# Altium schematic symbol library TBP02R1-381-10BE.SchLib: 1 symbol
Pins are listed as number, name and electrical type; pins without a type are passive.

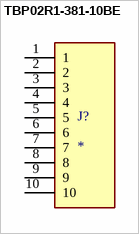
[diagram p0: symbol TBP02R1-381-10BE]

## TBP02R1-381-10BE
designator J?
2â€“24 Ð¿Ð¾Ð»ÑŽÑÐ°, Ð¿Ð¾Ð´ÐºÐ»ÑŽÑ‡Ð°ÐµÐ¼Ñ‹Ðµ, Ñ Ñ€Ð¾Ð·ÐµÑ‚ÐºÐ¾Ð¹, Ð³Ð¾Ñ€Ð¸Ð·Ð¾Ð½Ñ‚Ð°Ð»ÑŒÐ½Ñ‹Ðµ, Ñ ÑˆÐ°Ð³Ð¾Ð¼ 3,81, ÐºÐ»ÐµÐ¼Ð¼Ð½Ð°Ñ ÐºÐ¾Ð»Ð¾Ð´ÐºÐ°; MF: Same Sky; MP: TBP02R1-381-10BE; SnapEDA_Link: https://www.snapeda.com/parts/TBP02R1-381-10BE/Same+Sky/view-part/?ref=snap; Package: None; Value: *; Check_prices: https://www.snapeda.com/parts/TBP02R1-381-10BE/Same+Sky/view-part/?ref=eda
footprint CUI_TBP02R1-381-10BE
pins: 1, 2, 3, 4, 5, 6, 7, 8, 9, 10